# Altium footprint library Connectors-WR-PHD_Pin Header.PcbLib: 232 footprints (part 5 of 15)
Each footprint in its own frame and in the unit in brackets; x right, y up, seen from the top. Pads: shape width x height; smd on the part's side, far side on the other; paste and mask are expansions set on the pad; w line width, h text height; cw(c..) or ccw(c..) is an arc to the next point about the centre after c.
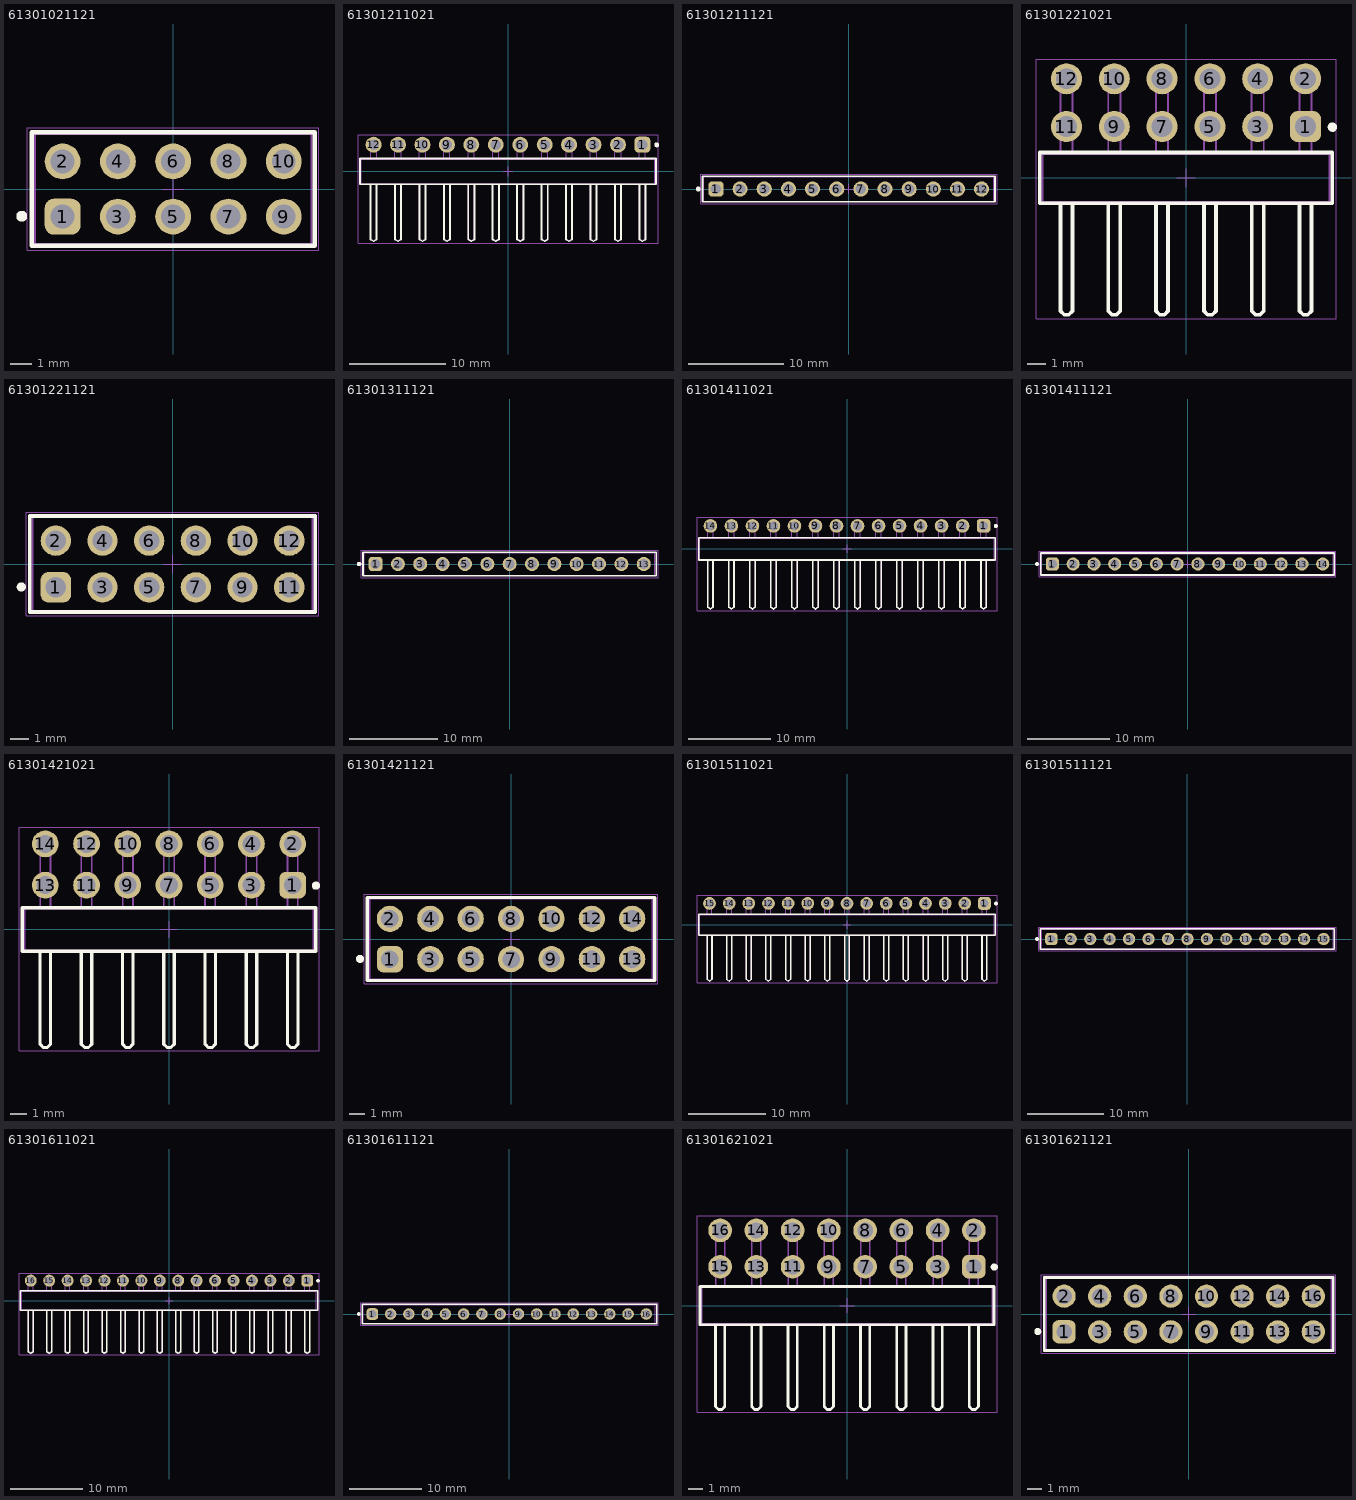
[diagram p4: the footprints below, top view; thin cyan lines are the x and y axes]

## 61301021121 [mm] "Pin Header, pitch 2.54 mm, THT, Vertical, dual row, 10p"
height 8.54
pads (10):
  rrect50% 1.65x1.65 hole 1.1: 1(-5.08,-1.27)
  round 1.65 hole 1.1: 2(-5.08,1.27) 3(-2.54,-1.27) 4(-2.54,1.27) 5(0,-1.27) 6(0,1.27) 7(2.54,-1.27) 8(2.54,1.27) 9(5.08,-1.27) 10(5.08,1.27)
Top Overlay:
  circle w0.25: c-6.96,-1.25 r0.125
  lines w0.2: -6.5,-2.615 -6.5,2.615 6.5,2.615 6.5,-2.615 -6.5,-2.615
Top Designator:
  text ".Designator" at -7.498,-0.5 h1.5
Top Component Outline:
  lines w0.1: -6.35,-2.54 -6.35,2.54 6.35,2.54 6.35,-2.54 -6.35,-2.54
Top Courtyard:
  lines w0.05: -6.7,-2.815 6.7,-2.815 6.7,2.815 -6.7,2.815 -6.7,-2.815
Top Component Center:
  lines w0.05: -0.5,0 0.5,0 ; 0,-0.5 0,0.5
3D body "61301021121.stp": height 8.59, standoff -2.95, extent -6.35,-2.54 6.35,2.54

## 61301211021 [mm] "Pin Header, pitch 2.54 mm, THT, Angled, single row, 12p"
height 2.54
pads (12):
  rrect50% 1.65x1.65 hole 1.1: 1(13.97,2.77)
  round 1.65 hole 1.1: 2(11.43,2.77) 3(8.89,2.77) 4(6.35,2.77) 5(3.81,2.77) 6(1.27,2.77) 7(-1.27,2.77) 8(-3.81,2.77) 9(-6.35,2.77) 10(-8.89,2.77) 11(-11.43,2.77) 12(-13.97,2.77)
Top Overlay:
  circle w0.25: c15.45,2.75 r0.125
  lines w0.2: -14.29,-1.345 -14.29,-7.07 -13.97,-7.27 -13.65,-7.07 -13.65,-1.345 ; -11.75,-1.345 -11.75,-7.07 -11.43,-7.27 -11.11,-7.07 -11.11,-1.345 ; -9.21,-1.345 -9.21,-7.07 -8.89,-7.27 -8.57,-7.07 -8.57,-1.345 ; -6.67,-1.345 -6.67,-7.07 -6.35,-7.27 -6.03,-7.07 -6.03,-1.345 ; -4.13,-1.345 -4.13,-7.07 -3.81,-7.27 -3.49,-7.07 -3.49,-1.345 ; -1.59,-1.345 -1.59,-7.07 -1.27,-7.27 -0.95,-7.07 -0.95,-1.345 ; 0.95,-1.345 0.95,-7.07 1.27,-7.27 1.59,-7.07 1.59,-1.345 ; 3.49,-1.345 3.49,-7.07 3.81,-7.27 4.13,-7.07 4.13,-1.345 ; 6.03,-1.345 6.03,-7.07 6.35,-7.27 6.67,-7.07 6.67,-1.345 ; 8.57,-1.345 8.57,-7.07 8.89,-7.27 9.21,-7.07 9.21,-1.345 ; 11.11,-1.345 11.11,-7.07 11.43,-7.27 11.75,-7.07 11.75,-1.345 ; 13.65,-1.345 13.65,-7.07 13.97,-7.27 14.29,-7.07 14.29,-1.345 ; -15.39,-1.345 -15.39,1.345 15.39,1.345 15.39,-1.345 -15.39,-1.345
Top Designator:
  text ".Designator" at -7.498,-0.5 h1.5
Top Component Outline:
  lines w0.1: -14.29,-1.27 -14.29,-7.07 -13.97,-7.27 -13.65,-7.07 -13.65,-1.27 ; -14.29,1.27 -14.29,3.09 -13.65,3.09 -13.65,1.27 ; -11.75,-1.27 -11.75,-7.07 -11.43,-7.27 -11.11,-7.07 -11.11,-1.27 ; -11.75,1.27 -11.75,3.09 -11.11,3.09 -11.11,1.27 ; -9.21,-1.27 -9.21,-7.07 -8.89,-7.27 -8.57,-7.07 -8.57,-1.27 ; -9.21,1.27 -9.21,3.09 -8.57,3.09 -8.57,1.27 ; -6.67,-1.27 -6.67,-7.07 -6.35,-7.27 -6.03,-7.07 -6.03,-1.27 ; -6.67,1.27 -6.67,3.09 -6.03,3.09 -6.03,1.27 ; -4.13,-1.27 -4.13,-7.07 -3.81,-7.27 -3.49,-7.07 -3.49,-1.27 ; -4.13,1.27 -4.13,3.09 -3.49,3.09 -3.49,1.27 ; -1.59,-1.27 -1.59,-7.07 -1.27,-7.27 -0.95,-7.07 -0.95,-1.27 ; -1.59,1.27 -1.59,3.09 -0.95,3.09 -0.95,1.27 ; 0.95,-1.27 0.95,-7.07 1.27,-7.27 1.59,-7.07 1.59,-1.27 ; 0.95,1.27 0.95,3.09 1.59,3.09 1.59,1.27 ; 3.49,-1.27 3.49,-7.07 3.81,-7.27 4.13,-7.07 4.13,-1.27 ; 3.49,1.27 3.49,3.09 4.13,3.09 4.13,1.27 ; 6.03,-1.27 6.03,-7.07 6.35,-7.27 6.67,-7.07 6.67,-1.27 ; 6.03,1.27 6.03,3.09 6.67,3.09 6.67,1.27 ; 8.57,-1.27 8.57,-7.07 8.89,-7.27 9.21,-7.07 9.21,-1.27 ; 8.57,1.27 8.57,3.09 9.21,3.09 9.21,1.27 ; 11.11,-1.27 11.11,-7.07 11.43,-7.27 11.75,-7.07 11.75,-1.27 ; 11.11,1.27 11.11,3.09 11.75,3.09 11.75,1.27 ; 13.65,-1.27 13.65,-7.07 13.97,-7.27 14.29,-7.07 14.29,-1.27 ; 13.65,1.27 13.65,3.09 14.29,3.09 14.29,1.27 ; -15.24,-1.27 15.24,-1.27 15.24,1.27 -15.24,1.27 -15.24,-1.27
Top Courtyard:
  lines w0.05: -15.59,-7.47 -15.59,3.795 15.59,3.795 15.59,-7.47 -15.59,-7.47
Top Component Center:
  lines w0.05: -0.5,0 0.5,0 ; 0,-0.5 0,0.5
3D body "61301211021.stp": height 2.58, standoff -2.96, extent -15.24,-7.27 15.24,3.09

## 61301211121 [mm] "Pin Header, pitch 2.54 mm, THT, Vertical, single row, 12p"
height 8.54
pads (12):
  rrect50% 1.6x1.6 hole 1.1: 1(-13.97,0)
  round 1.6 hole 1.1: 2(-11.43,0) 3(-8.89,0) 4(-6.35,0) 5(-3.81,0) 6(-1.27,0) 7(1.27,0) 8(3.81,0) 9(6.35,0) 10(8.89,0) 11(11.43,0) 12(13.97,0)
Top Overlay:
  circle w0.25: c-15.84,0 r0.125
  lines w0.2: -15.39,-1.345 15.39,-1.345 15.39,1.345 -15.39,1.345 -15.39,-1.345
Top Designator:
  text ".Designator" at -7.498,-0.5 h1.5
Top Component Outline:
  lines w0.1: -15.24,-1.27 -15.24,1.27 15.24,1.27 15.24,-1.27 -15.24,-1.27
Top Courtyard:
  lines w0.05: -15.59,-1.545 -15.59,1.545 15.59,1.545 15.59,-1.545 -15.59,-1.545
Top Component Center:
  lines w0.05: -0.5,0 0.5,0 ; 0,-0.5 0,0.5
3D body "61301211121.stp": height 8.57, standoff -2.97, extent -15.24,-1.27 15.24,1.27

## 61301221021 [mm] "Pin Header, pitch 2.54 mm, THT, Angled, dual row, 12p"
height 5.08
pads (12):
  rrect50% 1.65x1.65 hole 1.1: 1(6.35,2.73)
  round 1.65 hole 1.1: 2(6.35,5.27) 3(3.81,2.73) 4(3.81,5.27) 5(1.27,2.73) 6(1.27,5.27) 7(-1.27,2.73) 8(-1.27,5.27) 9(-3.81,2.73) 10(-3.81,5.27) 11(-6.35,2.73) 12(-6.35,5.27)
Top Overlay:
  circle w0.25: c7.78,2.7 r0.125
  lines w0.2: -6.67,-1.345 -6.67,-7.07 -6.47,-7.27 -6.23,-7.27 -6.03,-7.07 -6.03,-1.345 ; -4.13,-1.345 -4.13,-7.07 -3.93,-7.27 -3.69,-7.27 -3.49,-7.07 -3.49,-1.345 ; -1.59,-1.345 -1.59,-7.07 -1.39,-7.27 -1.15,-7.27 -0.95,-7.07 -0.95,-1.345 ; 0.95,-1.345 0.95,-7.07 1.15,-7.27 1.39,-7.27 1.59,-7.07 1.59,-1.345 ; 3.49,-1.345 3.49,-7.07 3.69,-7.27 3.93,-7.27 4.13,-7.07 4.13,-1.345 ; 6.03,-1.345 6.03,-7.07 6.23,-7.27 6.47,-7.27 6.67,-7.07 6.67,-1.345 ; -7.77,-1.345 7.77,-1.345 7.77,1.345 -7.77,1.345 -7.77,-1.345
Top Designator:
  text ".Designator" at -7.498,-0.5 h1.5
Top Component Outline:
  lines w0.1: -6.67,-1.27 -6.67,-7.07 -6.47,-7.27 -6.23,-7.27 -6.03,-7.07 -6.03,-1.27 ; -6.67,1.27 -6.67,5.63 -6.03,5.63 -6.03,1.27 ; -6.67,3.09 -6.03,3.09 ; -4.13,-1.27 -4.13,-7.07 -3.93,-7.27 -3.69,-7.27 -3.49,-7.07 -3.49,-1.27 ; -4.13,1.27 -4.13,5.63 -3.49,5.63 -3.49,1.27 ; -4.13,3.09 -3.49,3.09 ; -1.59,-1.27 -1.59,-7.07 -1.39,-7.27 -1.15,-7.27 -0.95,-7.07 -0.95,-1.27 ; -1.59,1.27 -1.59,5.63 -0.95,5.63 -0.95,1.27 ; -1.59,3.09 -0.95,3.09 ; 0.95,-1.27 0.95,-7.07 1.15,-7.27 1.39,-7.27 1.59,-7.07 1.59,-1.27 ; 0.95,1.27 0.95,5.63 1.59,5.63 1.59,1.27 ; 0.95,3.09 1.59,3.09 ; 3.49,-1.27 3.49,-7.07 3.69,-7.27 3.93,-7.27 4.13,-7.07 4.13,-1.27 ; 3.49,1.27 3.49,5.63 4.13,5.63 4.13,1.27 ; 3.49,3.09 4.13,3.09 ; 6.03,-1.27 6.03,-7.07 6.23,-7.27 6.47,-7.27 6.67,-7.07 6.67,-1.27 ; 6.03,1.27 6.03,5.63 6.67,5.63 6.67,1.27 ; 6.03,3.09 6.67,3.09 ; -7.62,-1.27 7.62,-1.27 7.62,1.27 -7.62,1.27 -7.62,-1.27
Top Courtyard:
  lines w0.05: -7.97,-7.47 7.97,-7.47 7.97,6.295 -7.97,6.295 -7.97,-7.47
Top Component Center:
  lines w0.05: -0.5,0 0.5,0 ; 0,-0.5 0,0.5
3D body "61301221021.stp": height 5.12, standoff -2.96, extent -7.62,-7.27 7.62,5.63

## 61301221121 [mm] "Pin Header, pitch 2.54 mm, THT, Vertical, dual row, 12p"
height 8.54
pads (12):
  rrect50% 1.65x1.65 hole 1.1: 1(-6.35,-1.27)
  round 1.65 hole 1.1: 2(-6.35,1.27) 3(-3.81,-1.27) 4(-3.81,1.27) 5(-1.27,-1.27) 6(-1.27,1.27) 7(1.27,-1.27) 8(1.27,1.27) 9(3.81,-1.27) 10(3.81,1.27) 11(6.35,-1.27) 12(6.35,1.27)
Top Overlay:
  circle w0.25: c-8.23,-1.25 r0.125
  lines w0.2: -7.77,-2.615 -7.77,2.615 7.77,2.615 7.77,-2.615 -7.77,-2.615
Top Designator:
  text ".Designator" at -7.498,-0.5 h1.5
Top Component Outline:
  lines w0.1: -7.62,-2.54 -7.62,2.54 7.62,2.54 7.62,-2.54 -7.62,-2.54
Top Courtyard:
  lines w0.05: -7.97,-2.815 7.97,-2.815 7.97,2.815 -7.97,2.815 -7.97,-2.815
Top Component Center:
  lines w0.05: -0.5,0 0.5,0 ; 0,-0.5 0,0.5
3D body "61301221121.stp": height 8.59, standoff -2.95, extent -7.62,-2.54 7.62,2.54

## 61301311121 [mm] "Pin Header, pitch 2.54 mm, THT, Vertical, single row, 13p"
height 8.54
pads (13):
  rrect50% 1.6x1.6 hole 1.1: 1(-15.24,0)
  round 1.6 hole 1.1: 2(-12.7,0) 3(-10.16,0) 4(-7.62,0) 5(-5.08,0) 6(-2.54,0) 7(0,0) 8(2.54,0) 9(5.08,0) 10(7.62,0) 11(10.16,0) 12(12.7,0) 13(15.24,0)
Top Overlay:
  circle w0.25: c-17.11,0 r0.125
  lines w0.2: -16.66,-1.345 16.66,-1.345 16.66,1.345 -16.66,1.345 -16.66,-1.345
Top Designator:
  text ".Designator" at -7.498,-0.5 h1.5
Top Component Outline:
  lines w0.1: -16.51,-1.27 -16.51,1.27 16.51,1.27 16.51,-1.27 -16.51,-1.27
Top Courtyard:
  lines w0.05: -16.86,-1.545 -16.86,1.545 16.86,1.545 16.86,-1.545 -16.86,-1.545
Top Component Center:
  lines w0.05: -0.5,0 0.5,0 ; 0,-0.5 0,0.5
3D body "61301311121.stp": height 8.57, standoff -2.97, extent -16.51,-1.27 16.51,1.27

## 61301411021 [mm] "Pin Header, pitch 2.54 mm, THT, Angled, single row, 14p"
height 2.54
pads (14):
  rrect50% 1.65x1.65 hole 1.1: 1(16.51,2.77)
  round 1.65 hole 1.1: 2(13.97,2.77) 3(11.43,2.77) 4(8.89,2.77) 5(6.35,2.77) 6(3.81,2.77) 7(1.27,2.77) 8(-1.27,2.77) 9(-3.81,2.77) 10(-6.35,2.77) 11(-8.89,2.77) 12(-11.43,2.77) 13(-13.97,2.77) 14(-16.51,2.77)
Top Overlay:
  circle w0.25: c17.99,2.75 r0.125
  lines w0.2: -16.83,-1.345 -16.83,-7.07 -16.51,-7.27 -16.19,-7.07 -16.19,-1.345 ; -14.29,-1.345 -14.29,-7.07 -13.97,-7.27 -13.65,-7.07 -13.65,-1.345 ; -11.75,-1.345 -11.75,-7.07 -11.43,-7.27 -11.11,-7.07 -11.11,-1.345 ; -9.21,-1.345 -9.21,-7.07 -8.89,-7.27 -8.57,-7.07 -8.57,-1.345 ; -6.67,-1.345 -6.67,-7.07 -6.35,-7.27 -6.03,-7.07 -6.03,-1.345 ; -4.13,-1.345 -4.13,-7.07 -3.81,-7.27 -3.49,-7.07 -3.49,-1.345 ; -1.59,-1.345 -1.59,-7.07 -1.27,-7.27 -0.95,-7.07 -0.95,-1.345 ; 0.95,-1.345 0.95,-7.07 1.27,-7.27 1.59,-7.07 1.59,-1.345 ; 3.49,-1.345 3.49,-7.07 3.81,-7.27 4.13,-7.07 4.13,-1.345 ; 6.03,-1.345 6.03,-7.07 6.35,-7.27 6.67,-7.07 6.67,-1.345 ; 8.57,-1.345 8.57,-7.07 8.89,-7.27 9.21,-7.07 9.21,-1.345 ; 11.11,-1.345 11.11,-7.07 11.43,-7.27 11.75,-7.07 11.75,-1.345 ; 13.65,-1.345 13.65,-7.07 13.97,-7.27 14.29,-7.07 14.29,-1.345 ; 16.19,-1.345 16.19,-7.07 16.51,-7.27 16.83,-7.07 16.83,-1.345 ; -17.93,-1.345 17.93,-1.345 17.93,1.345 -17.93,1.345 -17.93,-1.345
Top Designator:
  text ".Designator" at -7.498,-0.5 h1.5
Top Component Outline:
  lines w0.1: -16.83,-1.27 -16.83,-7.07 -16.51,-7.27 -16.19,-7.07 -16.19,-1.27 ; -16.83,1.27 -16.83,3.09 -16.19,3.09 -16.19,1.27 ; -14.29,-1.27 -14.29,-7.07 -13.97,-7.27 -13.65,-7.07 -13.65,-1.27 ; -14.29,1.27 -14.29,3.09 -13.65,3.09 -13.65,1.27 ; -11.75,-1.27 -11.75,-7.07 -11.43,-7.27 -11.11,-7.07 -11.11,-1.27 ; -11.75,1.27 -11.75,3.09 -11.11,3.09 -11.11,1.27 ; -9.21,-1.27 -9.21,-7.07 -8.89,-7.27 -8.57,-7.07 -8.57,-1.27 ; -9.21,1.27 -9.21,3.09 -8.57,3.09 -8.57,1.27 ; -6.67,-1.27 -6.67,-7.07 -6.35,-7.27 -6.03,-7.07 -6.03,-1.27 ; -6.67,1.27 -6.67,3.09 -6.03,3.09 -6.03,1.27 ; -4.13,-1.27 -4.13,-7.07 -3.81,-7.27 -3.49,-7.07 -3.49,-1.27 ; -4.13,1.27 -4.13,3.09 -3.49,3.09 -3.49,1.27 ; -1.59,-1.27 -1.59,-7.07 -1.27,-7.27 -0.95,-7.07 -0.95,-1.27 ; -1.59,1.27 -1.59,3.09 -0.95,3.09 -0.95,1.27 ; 0.95,-1.27 0.95,-7.07 1.27,-7.27 1.59,-7.07 1.59,-1.27 ; 0.95,1.27 0.95,3.09 1.59,3.09 1.59,1.27 ; 3.49,-1.27 3.49,-7.07 3.81,-7.27 4.13,-7.07 4.13,-1.27 ; 3.49,1.27 3.49,3.09 4.13,3.09 4.13,1.27 ; 6.03,-1.27 6.03,-7.07 6.35,-7.27 6.67,-7.07 6.67,-1.27 ; 6.03,1.27 6.03,3.09 6.67,3.09 6.67,1.27 ; 8.57,-1.27 8.57,-7.07 8.89,-7.27 9.21,-7.07 9.21,-1.27 ; 8.57,1.27 8.57,3.09 9.21,3.09 9.21,1.27 ; 11.11,-1.27 11.11,-7.07 11.43,-7.27 11.75,-7.07 11.75,-1.27 ; 11.11,1.27 11.11,3.09 11.75,3.09 11.75,1.27 ; 13.65,-1.27 13.65,-7.07 13.97,-7.27 14.29,-7.07 14.29,-1.27 ; 13.65,1.27 13.65,3.09 14.29,3.09 14.29,1.27 ; 16.19,-1.27 16.19,-7.07 16.51,-7.27 16.83,-7.07 16.83,-1.27 ; 16.19,1.27 16.19,3.09 16.83,3.09 16.83,1.27 ; -17.78,-1.27 17.78,-1.27 17.78,1.27 -17.78,1.27 -17.78,-1.27
Top Courtyard:
  lines w0.05: -18.13,-7.47 18.13,-7.47 18.13,3.795 -18.13,3.795 -18.13,-7.47
Top Component Center:
  lines w0.05: -0.5,0 0.5,0 ; 0,-0.5 0,0.5
3D body "61301411021.stp": height 2.58, standoff -2.96, extent -17.78,-7.27 17.78,3.09

## 61301411121 [mm] "Pin Header, pitch 2.54 mm, THT, Vertical, single row, 14p"
height 8.54
pads (14):
  rrect50% 1.6x1.6 hole 1.1: 1(-16.51,0)
  round 1.6 hole 1.1: 2(-13.97,0) 3(-11.43,0) 4(-8.89,0) 5(-6.35,0) 6(-3.81,0) 7(-1.27,0) 8(1.27,0) 9(3.81,0) 10(6.35,0) 11(8.89,0) 12(11.43,0) 13(13.97,0) 14(16.51,0)
Top Overlay:
  circle w0.25: c-18.38,0 r0.125
  lines w0.2: -17.93,-1.345 -17.93,1.345 17.93,1.345 17.93,-1.345 -17.93,-1.345
Top Designator:
  text ".Designator" at -7.498,-0.5 h1.5
Top Component Outline:
  lines w0.1: -17.78,-1.27 17.78,-1.27 17.78,1.27 -17.78,1.27 -17.78,-1.27
Top Courtyard:
  lines w0.05: -18.13,-1.545 18.13,-1.545 18.13,1.545 -18.13,1.545 -18.13,-1.545
Top Component Center:
  lines w0.05: -0.5,0 0.5,0 ; 0,-0.5 0,0.5
3D body "61301411121.stp": height 8.57, standoff -2.97, extent -17.78,-1.27 17.78,1.27

## 61301421021 [mm] "Pin Header, pitch 2.54 mm, THT, Angled, dual row, 14p"
height 5.08
pads (14):
  rrect50% 1.65x1.65 hole 1.1: 1(7.62,2.73)
  round 1.65 hole 1.1: 2(7.62,5.27) 3(5.08,2.73) 4(5.08,5.27) 5(2.54,2.73) 6(2.54,5.27) 7(0,2.73) 8(0,5.27) 9(-2.54,2.73) 10(-2.54,5.27) 11(-5.08,2.73) 12(-5.08,5.27) 13(-7.62,2.73) 14(-7.62,5.27)
Top Overlay:
  circle w0.25: c9.05,2.7 r0.125
  lines w0.2: -7.94,-1.345 -7.94,-7.07 -7.74,-7.27 -7.5,-7.27 -7.3,-7.07 -7.3,-1.345 ; -5.4,-1.345 -5.4,-7.07 -5.2,-7.27 -4.96,-7.27 -4.76,-7.07 -4.76,-1.345 ; -2.86,-1.345 -2.86,-7.07 -2.66,-7.27 -2.42,-7.27 -2.22,-7.07 -2.22,-1.345 ; -0.32,-1.345 -0.32,-7.07 -0.12,-7.27 0.12,-7.27 0.32,-7.07 0.32,-1.345 ; 2.22,-1.345 2.22,-7.07 2.42,-7.27 2.66,-7.27 2.86,-7.07 2.86,-1.345 ; 4.76,-1.345 4.76,-7.07 4.96,-7.27 5.2,-7.27 5.4,-7.07 5.4,-1.345 ; 7.3,-1.345 7.3,-7.07 7.5,-7.27 7.74,-7.27 7.94,-7.07 7.94,-1.345 ; -9.04,-1.345 9.04,-1.345 9.04,1.345 -9.04,1.345 -9.04,-1.345
Top Designator:
  text ".Designator" at -7.498,-0.5 h1.5
Top Component Outline:
  lines w0.1: -7.94,-1.27 -7.94,-7.07 -7.74,-7.27 -7.5,-7.27 -7.3,-7.07 -7.3,-1.27 ; -7.94,1.27 -7.94,5.63 -7.3,5.63 -7.3,1.27 ; -7.94,3.09 -7.3,3.09 ; -5.4,-1.27 -5.4,-7.07 -5.2,-7.27 -4.96,-7.27 -4.76,-7.07 -4.76,-1.27 ; -5.4,1.27 -5.4,5.63 -4.76,5.63 -4.76,1.27 ; -5.4,3.09 -4.76,3.09 ; -2.86,-1.27 -2.86,-7.07 -2.66,-7.27 -2.42,-7.27 -2.22,-7.07 -2.22,-1.27 ; -2.86,1.27 -2.86,5.63 -2.22,5.63 -2.22,1.27 ; -2.86,3.09 -2.22,3.09 ; -0.32,-1.27 -0.32,-7.07 -0.12,-7.27 0.12,-7.27 0.32,-7.07 0.32,-1.27 ; -0.32,1.27 -0.32,5.63 0.32,5.63 0.32,1.27 ; -0.32,3.09 0.32,3.09 ; 2.22,-1.27 2.22,-7.07 2.42,-7.27 2.66,-7.27 2.86,-7.07 2.86,-1.27 ; 2.22,1.27 2.22,5.63 2.86,5.63 2.86,1.27 ; 2.22,3.09 2.86,3.09 ; 4.76,-1.27 4.76,-7.07 4.96,-7.27 5.2,-7.27 5.4,-7.07 5.4,-1.27 ; 4.76,1.27 4.76,5.63 5.4,5.63 5.4,1.27 ; 4.76,3.09 5.4,3.09 ; 7.3,-1.27 7.3,-7.07 7.5,-7.27 7.74,-7.27 7.94,-7.07 7.94,-1.27 ; 7.3,1.27 7.3,5.63 7.94,5.63 7.94,1.27 ; 7.3,3.09 7.94,3.09 ; -8.89,-1.27 8.89,-1.27 8.89,1.27 -8.89,1.27 -8.89,-1.27
Top Courtyard:
  lines w0.05: -9.24,-7.47 9.24,-7.47 9.24,6.295 -9.24,6.295 -9.24,-7.47
Top Component Center:
  lines w0.05: -0.5,0 0.5,0 ; 0,-0.5 0,0.5
3D body "61301421021.stp": height 5.12, standoff -2.96, extent -8.89,-7.27 8.89,5.63

## 61301421121 [mm] "Pin Header, pitch 2.54 mm, THT, Vertical, dual row, 14p"
height 8.54
pads (14):
  rrect50% 1.65x1.65 hole 1.1: 1(-7.62,-1.27)
  round 1.65 hole 1.1: 2(-7.62,1.27) 3(-5.08,-1.27) 4(-5.08,1.27) 5(-2.54,-1.27) 6(-2.54,1.27) 7(0,-1.27) 8(0,1.27) 9(2.54,-1.27) 10(2.54,1.27) 11(5.08,-1.27) 12(5.08,1.27) 13(7.62,-1.27) 14(7.62,1.27)
Top Overlay:
  circle w0.25: c-9.5,-1.25 r0.125
  lines w0.2: -9.04,-2.615 9.04,-2.615 9.04,2.615 -9.04,2.615 -9.04,-2.615
Top Designator:
  text ".Designator" at -7.498,-0.5 h1.5
Top Component Outline:
  lines w0.1: -8.89,-2.54 8.89,-2.54 8.89,2.54 -8.89,2.54 -8.89,-2.54
Top Courtyard:
  lines w0.05: -9.24,-2.815 -9.24,2.815 9.24,2.815 9.24,-2.815 -9.24,-2.815
Top Component Center:
  lines w0.05: -0.5,0 0.5,0 ; 0,-0.5 0,0.5
3D body "61301421121.stp": height 8.59, standoff -2.95, extent -8.89,-2.54 8.89,2.54

## 61301511021 [mm] "Pin Header, pitch 2.54 mm, THT, Angled, single row, 15p"
height 2.54
pads (15):
  rrect50% 1.65x1.65 hole 1.1: 1(17.78,2.77)
  round 1.65 hole 1.1: 2(15.24,2.77) 3(12.7,2.77) 4(10.16,2.77) 5(7.62,2.77) 6(5.08,2.77) 7(2.54,2.77) 8(0,2.77) 9(-2.54,2.77) 10(-5.08,2.77) 11(-7.62,2.77) 12(-10.16,2.77) 13(-12.7,2.77) 14(-15.24,2.77) 15(-17.78,2.77)
Top Overlay:
  circle w0.25: c19.26,2.75 r0.125
  lines w0.2: -18.1,-1.345 -18.1,-7.07 -17.78,-7.27 -17.46,-7.07 -17.46,-1.345 ; -15.56,-1.345 -15.56,-7.07 -15.24,-7.27 -14.92,-7.07 -14.92,-1.345 ; -13.02,-1.345 -13.02,-7.07 -12.7,-7.27 -12.38,-7.07 -12.38,-1.345 ; -10.48,-1.345 -10.48,-7.07 -10.16,-7.27 -9.84,-7.07 -9.84,-1.345 ; -7.94,-1.345 -7.94,-7.07 -7.62,-7.27 -7.3,-7.07 -7.3,-1.345 ; -5.4,-1.345 -5.4,-7.07 -5.08,-7.27 -4.76,-7.07 -4.76,-1.345 ; -2.86,-1.345 -2.86,-7.07 -2.54,-7.27 -2.22,-7.07 -2.22,-1.345 ; -0.32,-1.345 -0.32,-7.07 0,-7.27 0.32,-7.07 0.32,-1.345 ; 2.22,-1.345 2.22,-7.07 2.54,-7.27 2.86,-7.07 2.86,-1.345 ; 4.76,-1.345 4.76,-7.07 5.08,-7.27 5.4,-7.07 5.4,-1.345 ; 7.3,-1.345 7.3,-7.07 7.62,-7.27 7.94,-7.07 7.94,-1.345 ; 9.84,-1.345 9.84,-7.07 10.16,-7.27 10.48,-7.07 10.48,-1.345 ; 12.38,-1.345 12.38,-7.07 12.7,-7.27 13.02,-7.07 13.02,-1.345 ; 14.92,-1.345 14.92,-7.07 15.24,-7.27 15.56,-7.07 15.56,-1.345 ; 17.46,-1.345 17.46,-7.07 17.78,-7.27 18.1,-7.07 18.1,-1.345 ; -19.2,-1.345 -19.2,1.345 19.2,1.345 19.2,-1.345 -19.2,-1.345
Top Designator:
  text ".Designator" at -7.498,-0.5 h1.5
Top Component Outline:
  lines w0.1: -18.1,-1.27 -18.1,-7.07 -17.78,-7.27 -17.46,-7.07 -17.46,-1.27 ; -18.1,1.27 -18.1,3.09 -17.46,3.09 -17.46,1.27 ; -15.56,-1.27 -15.56,-7.07 -15.24,-7.27 -14.92,-7.07 -14.92,-1.27 ; -15.56,1.27 -15.56,3.09 -14.92,3.09 -14.92,1.27 ; -13.02,-1.27 -13.02,-7.07 -12.7,-7.27 -12.38,-7.07 -12.38,-1.27 ; -13.02,1.27 -13.02,3.09 -12.38,3.09 -12.38,1.27 ; -10.48,-1.27 -10.48,-7.07 -10.16,-7.27 -9.84,-7.07 -9.84,-1.27 ; -10.48,1.27 -10.48,3.09 -9.84,3.09 -9.84,1.27 ; -7.94,-1.27 -7.94,-7.07 -7.62,-7.27 -7.3,-7.07 -7.3,-1.27 ; -7.94,1.27 -7.94,3.09 -7.3,3.09 -7.3,1.27 ; -5.4,-1.27 -5.4,-7.07 -5.08,-7.27 -4.76,-7.07 -4.76,-1.27 ; -5.4,1.27 -5.4,3.09 -4.76,3.09 -4.76,1.27 ; -2.86,-1.27 -2.86,-7.07 -2.54,-7.27 -2.22,-7.07 -2.22,-1.27 ; -2.86,1.27 -2.86,3.09 -2.22,3.09 -2.22,1.27 ; -0.32,-1.27 -0.32,-7.07 0,-7.27 0.32,-7.07 0.32,-1.27 ; -0.32,1.27 -0.32,3.09 0.32,3.09 0.32,1.27 ; 2.22,-1.27 2.22,-7.07 2.54,-7.27 2.86,-7.07 2.86,-1.27 ; 2.22,1.27 2.22,3.09 2.86,3.09 2.86,1.27 ; 4.76,-1.27 4.76,-7.07 5.08,-7.27 5.4,-7.07 5.4,-1.27 ; 4.76,1.27 4.76,3.09 5.4,3.09 5.4,1.27 ; 7.3,-1.27 7.3,-7.07 7.62,-7.27 7.94,-7.07 7.94,-1.27 ; 7.3,1.27 7.3,3.09 7.94,3.09 7.94,1.27 ; 9.84,-1.27 9.84,-7.07 10.16,-7.27 10.48,-7.07 10.48,-1.27 ; 9.84,1.27 9.84,3.09 10.48,3.09 10.48,1.27 ; 12.38,-1.27 12.38,-7.07 12.7,-7.27 13.02,-7.07 13.02,-1.27 ; 12.38,1.27 12.38,3.09 13.02,3.09 13.02,1.27 ; 14.92,-1.27 14.92,-7.07 15.24,-7.27 15.56,-7.07 15.56,-1.27 ; 14.92,1.27 14.92,3.09 15.56,3.09 15.56,1.27 ; 17.46,-1.27 17.46,-7.07 17.78,-7.27 18.1,-7.07 18.1,-1.27 ; 17.46,1.27 17.46,3.09 18.1,3.09 18.1,1.27 ; -19.05,-1.27 -19.05,1.27 19.05,1.27 19.05,-1.27 -19.05,-1.27
Top Courtyard:
  lines w0.05: -19.4,-7.47 -19.4,3.795 19.4,3.795 19.4,-7.47 -19.4,-7.47
Top Component Center:
  lines w0.05: -0.5,0 0.5,0 ; 0,-0.5 0,0.5
3D body "61301511021.stp": height 2.58, standoff -2.96, extent -19.05,-7.27 19.05,3.09

## 61301511121 [mm] "Pin Header, pitch 2.54 mm, THT, Vertical, single row, 15p"
height 8.54
pads (15):
  rrect50% 1.6x1.6 hole 1.1: 1(-17.78,0)
  round 1.6 hole 1.1: 2(-15.24,0) 3(-12.7,0) 4(-10.16,0) 5(-7.62,0) 6(-5.08,0) 7(-2.54,0) 8(0,0) 9(2.54,0) 10(5.08,0) 11(7.62,0) 12(10.16,0) 13(12.7,0) 14(15.24,0) 15(17.78,0)
Top Overlay:
  circle w0.25: c-19.65,0 r0.125
  lines w0.2: -19.2,-1.345 19.2,-1.345 19.2,1.345 -19.2,1.345 -19.2,-1.345
Top Designator:
  text ".Designator" at -7.498,-0.5 h1.5
Top Component Outline:
  lines w0.1: -19.05,-1.27 -19.05,1.27 19.05,1.27 19.05,-1.27 -19.05,-1.27
Top Courtyard:
  lines w0.05: -19.4,-1.545 -19.4,1.545 19.4,1.545 19.4,-1.545 -19.4,-1.545
Top Component Center:
  lines w0.05: -0.5,0 0.5,0 ; 0,-0.5 0,0.5
3D body "61301511121.stp": height 8.57, standoff -2.97, extent -19.05,-1.27 19.05,1.27

## 61301611021 [mm] "Pin Header, pitch 2.54 mm, THT, Angled, single row, 16p"
height 2.54
pads (16):
  rrect50% 1.65x1.65 hole 1.1: 1(19.05,2.77)
  round 1.65 hole 1.1: 2(16.51,2.77) 3(13.97,2.77) 4(11.43,2.77) 5(8.89,2.77) 6(6.35,2.77) 7(3.81,2.77) 8(1.27,2.77) 9(-1.27,2.77) 10(-3.81,2.77) 11(-6.35,2.77) 12(-8.89,2.77) 13(-11.43,2.77) 14(-13.97,2.77) 15(-16.51,2.77) 16(-19.05,2.77)
Top Overlay:
  circle w0.25: c20.53,2.75 r0.125
  lines w0.2: -19.37,-1.345 -19.37,-7.07 -19.05,-7.27 -18.73,-7.07 -18.73,-1.345 ; -16.83,-1.345 -16.83,-7.07 -16.51,-7.27 -16.19,-7.07 -16.19,-1.345 ; -14.29,-1.345 -14.29,-7.07 -13.97,-7.27 -13.65,-7.07 -13.65,-1.345 ; -11.75,-1.345 -11.75,-7.07 -11.43,-7.27 -11.11,-7.07 -11.11,-1.345 ; -9.21,-1.345 -9.21,-7.07 -8.89,-7.27 -8.57,-7.07 -8.57,-1.345 ; -6.67,-1.345 -6.67,-7.07 -6.35,-7.27 -6.03,-7.07 -6.03,-1.345 ; -4.13,-1.345 -4.13,-7.07 -3.81,-7.27 -3.49,-7.07 -3.49,-1.345 ; -1.59,-1.345 -1.59,-7.07 -1.27,-7.27 -0.95,-7.07 -0.95,-1.345 ; 0.95,-1.345 0.95,-7.07 1.27,-7.27 1.59,-7.07 1.59,-1.345 ; 3.49,-1.345 3.49,-7.07 3.81,-7.27 4.13,-7.07 4.13,-1.345 ; 6.03,-1.345 6.03,-7.07 6.35,-7.27 6.67,-7.07 6.67,-1.345 ; 8.57,-1.345 8.57,-7.07 8.89,-7.27 9.21,-7.07 9.21,-1.345 ; 11.11,-1.345 11.11,-7.07 11.43,-7.27 11.75,-7.07 11.75,-1.345 ; 13.65,-1.345 13.65,-7.07 13.97,-7.27 14.29,-7.07 14.29,-1.345 ; 16.19,-1.345 16.19,-7.07 16.51,-7.27 16.83,-7.07 16.83,-1.345 ; 18.73,-1.345 18.73,-7.07 19.05,-7.27 19.37,-7.07 19.37,-1.345 ; -20.47,-1.345 -20.47,1.345 20.47,1.345 20.47,-1.345 -20.47,-1.345
Top Designator:
  text ".Designator" at -7.498,-0.5 h1.5
Top Component Outline:
  lines w0.1: -19.37,-1.27 -19.37,-7.07 -19.05,-7.27 -18.73,-7.07 -18.73,-1.27 ; -19.37,1.27 -19.37,3.09 -18.73,3.09 -18.73,1.27 ; -16.83,-1.27 -16.83,-7.07 -16.51,-7.27 -16.19,-7.07 -16.19,-1.27 ; -16.83,1.27 -16.83,3.09 -16.19,3.09 -16.19,1.27 ; -14.29,-1.27 -14.29,-7.07 -13.97,-7.27 -13.65,-7.07 -13.65,-1.27 ; -14.29,1.27 -14.29,3.09 -13.65,3.09 -13.65,1.27 ; -11.75,-1.27 -11.75,-7.07 -11.43,-7.27 -11.11,-7.07 -11.11,-1.27 ; -11.75,1.27 -11.75,3.09 -11.11,3.09 -11.11,1.27 ; -9.21,-1.27 -9.21,-7.07 -8.89,-7.27 -8.57,-7.07 -8.57,-1.27 ; -9.21,1.27 -9.21,3.09 -8.57,3.09 -8.57,1.27 ; -6.67,-1.27 -6.67,-7.07 -6.35,-7.27 -6.03,-7.07 -6.03,-1.27 ; -6.67,1.27 -6.67,3.09 -6.03,3.09 -6.03,1.27 ; -4.13,-1.27 -4.13,-7.07 -3.81,-7.27 -3.49,-7.07 -3.49,-1.27 ; -4.13,1.27 -4.13,3.09 -3.49,3.09 -3.49,1.27 ; -1.59,-1.27 -1.59,-7.07 -1.27,-7.27 -0.95,-7.07 -0.95,-1.27 ; -1.59,1.27 -1.59,3.09 -0.95,3.09 -0.95,1.27 ; 0.95,-1.27 0.95,-7.07 1.27,-7.27 1.59,-7.07 1.59,-1.27 ; 0.95,1.27 0.95,3.09 1.59,3.09 1.59,1.27 ; 3.49,-1.27 3.49,-7.07 3.81,-7.27 4.13,-7.07 4.13,-1.27 ; 3.49,1.27 3.49,3.09 4.13,3.09 4.13,1.27 ; 6.03,-1.27 6.03,-7.07 6.35,-7.27 6.67,-7.07 6.67,-1.27 ; 6.03,1.27 6.03,3.09 6.67,3.09 6.67,1.27 ; 8.57,-1.27 8.57,-7.07 8.89,-7.27 9.21,-7.07 9.21,-1.27 ; 8.57,1.27 8.57,3.09 9.21,3.09 9.21,1.27 ; 11.11,-1.27 11.11,-7.07 11.43,-7.27 11.75,-7.07 11.75,-1.27 ; 11.11,1.27 11.11,3.09 11.75,3.09 11.75,1.27 ; 13.65,-1.27 13.65,-7.07 13.97,-7.27 14.29,-7.07 14.29,-1.27 ; 13.65,1.27 13.65,3.09 14.29,3.09 14.29,1.27 ; 16.19,-1.27 16.19,-7.07 16.51,-7.27 16.83,-7.07 16.83,-1.27 ; 16.19,1.27 16.19,3.09 16.83,3.09 16.83,1.27 ; 18.73,-1.27 18.73,-7.07 19.05,-7.27 19.37,-7.07 19.37,-1.27 ; 18.73,1.27 18.73,3.09 19.37,3.09 19.37,1.27 ; -20.32,-1.27 20.32,-1.27 20.32,1.27 -20.32,1.27 -20.32,-1.27
Top Courtyard:
  lines w0.05: -20.67,-7.47 -20.67,3.795 20.67,3.795 20.67,-7.47 -20.67,-7.47
Top Component Center:
  lines w0.05: -0.5,0 0.5,0 ; 0,-0.5 0,0.5
3D body "61301611021.stp": height 2.58, standoff -2.96, extent -20.32,-7.27 20.32,3.09

## 61301611121 [mm] "Pin Header, pitch 2.54 mm, THT, Vertical, single row, 16p"
height 8.54
pads (16):
  rrect50% 1.6x1.6 hole 1.1: 1(-19.05,0)
  round 1.6 hole 1.1: 2(-16.51,0) 3(-13.97,0) 4(-11.43,0) 5(-8.89,0) 6(-6.35,0) 7(-3.81,0) 8(-1.27,0) 9(1.27,0) 10(3.81,0) 11(6.35,0) 12(8.89,0) 13(11.43,0) 14(13.97,0) 15(16.51,0) 16(19.05,0)
Top Overlay:
  circle w0.25: c-20.92,0 r0.125
  lines w0.2: -20.47,-1.345 -20.47,1.345 20.47,1.345 20.47,-1.345 -20.47,-1.345
Top Designator:
  text ".Designator" at -7.498,-0.5 h1.5
Top Component Outline:
  lines w0.1: -20.32,-1.27 20.32,-1.27 20.32,1.27 -20.32,1.27 -20.32,-1.27
Top Courtyard:
  lines w0.05: -20.67,-1.545 20.67,-1.545 20.67,1.545 -20.67,1.545 -20.67,-1.545
Top Component Center:
  lines w0.05: -0.5,0 0.5,0 ; 0,-0.5 0,0.5
3D body "61301611121.stp": height 8.57, standoff -2.97, extent -20.32,-1.27 20.32,1.27

## 61301621021 [mm] "Pin Header, pitch 2.54 mm, THT, Angled, dual row, 16p"
height 5.08
pads (16):
  rrect50% 1.65x1.65 hole 1.1: 1(8.89,2.73)
  round 1.65 hole 1.1: 2(8.89,5.27) 3(6.35,2.73) 4(6.35,5.27) 5(3.81,2.73) 6(3.81,5.27) 7(1.27,2.73) 8(1.27,5.27) 9(-1.27,2.73) 10(-1.27,5.27) 11(-3.81,2.73) 12(-3.81,5.27) 13(-6.35,2.73) 14(-6.35,5.27) 15(-8.89,2.73) 16(-8.89,5.27)
Top Overlay:
  circle w0.25: c10.32,2.7 r0.125
  lines w0.2: -9.21,-1.345 -9.21,-7.07 -9.01,-7.27 -8.77,-7.27 -8.57,-7.07 -8.57,-1.345 ; -6.67,-1.345 -6.67,-7.07 -6.47,-7.27 -6.23,-7.27 -6.03,-7.07 -6.03,-1.345 ; -4.13,-1.345 -4.13,-7.07 -3.93,-7.27 -3.69,-7.27 -3.49,-7.07 -3.49,-1.345 ; -1.59,-1.345 -1.59,-7.07 -1.39,-7.27 -1.15,-7.27 -0.95,-7.07 -0.95,-1.345 ; 0.95,-1.345 0.95,-7.07 1.15,-7.27 1.39,-7.27 1.59,-7.07 1.59,-1.345 ; 3.49,-1.345 3.49,-7.07 3.69,-7.27 3.93,-7.27 4.13,-7.07 4.13,-1.345 ; 6.03,-1.345 6.03,-7.07 6.23,-7.27 6.47,-7.27 6.67,-7.07 6.67,-1.345 ; 8.57,-1.345 8.57,-7.07 8.77,-7.27 9.01,-7.27 9.21,-7.07 9.21,-1.345 ; -10.31,-1.345 10.31,-1.345 10.31,1.345 -10.31,1.345 -10.31,-1.345
Top Designator:
  text ".Designator" at -7.498,-0.5 h1.5
Top Component Outline:
  lines w0.1: -9.21,-1.27 -9.21,-7.07 -9.01,-7.27 -8.77,-7.27 -8.57,-7.07 -8.57,-1.27 ; -9.21,1.27 -9.21,5.63 -8.57,5.63 -8.57,1.27 ; -9.21,3.09 -8.57,3.09 ; -6.67,-1.27 -6.67,-7.07 -6.47,-7.27 -6.23,-7.27 -6.03,-7.07 -6.03,-1.27 ; -6.67,1.27 -6.67,5.63 -6.03,5.63 -6.03,1.27 ; -6.67,3.09 -6.03,3.09 ; -4.13,-1.27 -4.13,-7.07 -3.93,-7.27 -3.69,-7.27 -3.49,-7.07 -3.49,-1.27 ; -4.13,1.27 -4.13,5.63 -3.49,5.63 -3.49,1.27 ; -4.13,3.09 -3.49,3.09 ; -1.59,-1.27 -1.59,-7.07 -1.39,-7.27 -1.15,-7.27 -0.95,-7.07 -0.95,-1.27 ; -1.59,1.27 -1.59,5.63 -0.95,5.63 -0.95,1.27 ; -1.59,3.09 -0.95,3.09 ; 0.95,-1.27 0.95,-7.07 1.15,-7.27 1.39,-7.27 1.59,-7.07 1.59,-1.27 ; 0.95,1.27 0.95,5.63 1.59,5.63 1.59,1.27 ; 0.95,3.09 1.59,3.09 ; 3.49,-1.27 3.49,-7.07 3.69,-7.27 3.93,-7.27 4.13,-7.07 4.13,-1.27 ; 3.49,1.27 3.49,5.63 4.13,5.63 4.13,1.27 ; 3.49,3.09 4.13,3.09 ; 6.03,-1.27 6.03,-7.07 6.23,-7.27 6.47,-7.27 6.67,-7.07 6.67,-1.27 ; 6.03,1.27 6.03,5.63 6.67,5.63 6.67,1.27 ; 8.57,-1.27 8.57,-7.07 8.77,-7.27 9.01,-7.27 9.21,-7.07 9.21,-1.27 ; 8.57,1.27 8.57,5.63 9.21,5.63 9.21,1.27 ; 8.57,3.09 9.21,3.09 ; -10.16,-1.27 -10.16,1.27 10.16,1.27 10.16,-1.27 -10.16,-1.27 ; 6.03,3.09 6.67,3.09 6.03,3.09
Top Courtyard:
  lines w0.05: -10.51,-7.47 10.51,-7.47 10.51,6.295 -10.51,6.295 -10.51,-7.47
Top Component Center:
  lines w0.05: -0.5,0 0.5,0 ; 0,-0.5 0,0.5
3D body "61301621021.stp": height 5.12, standoff -2.96, extent -10.16,-7.27 10.16,5.63

## 61301621121 [mm] "Pin Header, pitch 2.54 mm, THT, Vertical, dual row, 16p"
height 8.54
pads (16):
  rrect50% 1.65x1.65 hole 1.1: 1(-8.89,-1.27)
  round 1.65 hole 1.1: 2(-8.89,1.27) 3(-6.35,-1.27) 4(-6.35,1.27) 5(-3.81,-1.27) 6(-3.81,1.27) 7(-1.27,-1.27) 8(-1.27,1.27) 9(1.27,-1.27) 10(1.27,1.27) 11(3.81,-1.27) 12(3.81,1.27) 13(6.35,-1.27) 14(6.35,1.27) 15(8.89,-1.27) 16(8.89,1.27)
Top Overlay:
  circle w0.25: c-10.77,-1.25 r0.125
  lines w0.2: -10.31,-2.615 10.31,-2.615 10.31,2.615 -10.31,2.615 -10.31,-2.615
Top Designator:
  text ".Designator" at -7.498,-0.5 h1.5
Top Component Outline:
  lines w0.1: -10.16,-2.54 10.16,-2.54 10.16,2.54 -10.16,2.54 -10.16,-2.54
Top Courtyard:
  lines w0.05: -10.51,-2.815 -10.51,2.815 10.51,2.815 10.51,-2.815 -10.51,-2.815
Top Component Center:
  lines w0.05: -0.5,0 0.5,0 ; 0,-0.5 0,0.5
3D body "61301621121.stp": height 8.59, standoff -2.95, extent -10.16,-2.54 10.16,2.54